# EAGLE library part AT90USB82/162 (library atmel-avr)
MICROCONTROLLER 8/16K Bytes of ISP Flash and USB Controller
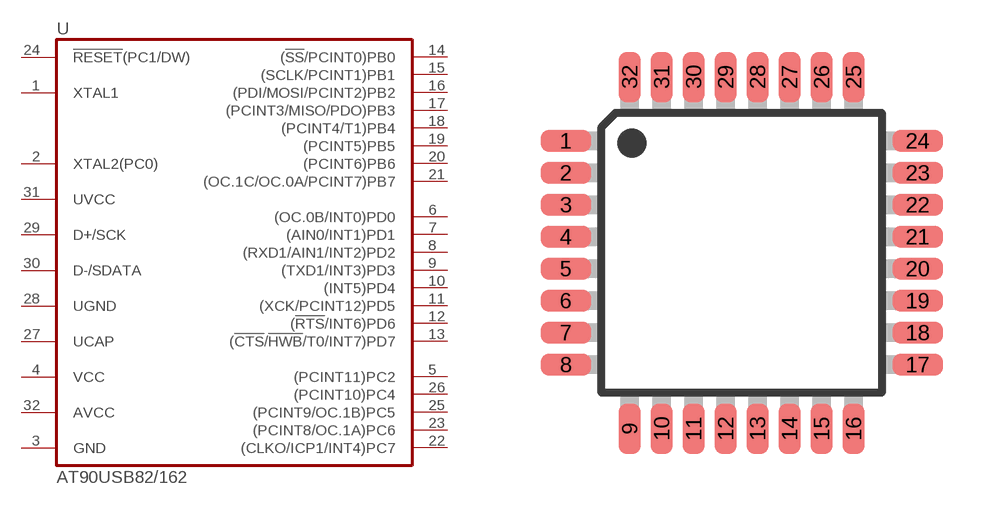
[diagram p20: symbol with the pads of TQFP32A; footprint TQFP32A]

Designator prefix U

## AT90USB82/162A  [TQFP32A]
1  XTAL1
2  XTAL2(PC0)
3  GND
4  VCC
5  (PCINT11)PC2
6  (OC.0B/INT0)PD0
7  (AIN0/INT1)PD1
8  (RXD1/AIN1/INT2)PD2
9  (TXD1/INT3)PD3
10  (INT5)PD4
11  (XCK/PCINT12)PD5
12  (!RTS!/INT6)PD6
13  (!CTS!/!HWB!/T0/INT7)PD7
14  (!SS!/PCINT0)PB0
15  (SCLK/PCINT1)PB1
16  (PDI/MOSI/PCINT2)PB2
17  (PCINT3/MISO/PDO)PB3
18  (PCINT4/T1)PB4
19  (PCINT5)PB5
20  (PCINT6)PB6
21  (OC.1C/OC.0A/PCINT7)PB7
22  (CLKO/ICP1/INT4)PC7
23  (PCINT8/OC.1A)PC6
24  !RESET!(PC1/DW)
25  (PCINT9/OC.1B)PC5
26  (PCINT10)PC4
27  UCAP
28  UGND
29  D+/SCK
30  D-/SDATA
31  UVCC
32  AVCC

## Footprint TQFP32A (pad centres in mm)
Thin Plasic Quad Flat Package 0.8 mm pitch
smd 1.27 x 0.559: 1 -4.4,2.8; 2 -4.4,2; 3 -4.4,1.2; 4 -4.4,0.4; 5 -4.4,-0.4; 6 -4.4,-1.2; 7 -4.4,-2; 8 -4.4,-2.8; 17 4.4,-2.8; 18 4.4,-2; 19 4.4,-1.2; 20 4.4,-0.4; 21 4.4,0.4; 22 4.4,1.2; 23 4.4,2; 24 4.4,2.8
smd 0.559 x 1.27: 9 -2.8,-4.4; 10 -2,-4.4; 11 -1.2,-4.4; 12 -0.4,-4.4; 13 0.4,-4.4; 14 1.2,-4.4; 15 2,-4.4; 16 2.8,-4.4; 25 2.8,4.4; 26 2,4.4; 27 1.2,4.4; 28 0.4,4.4; 29 -0.4,4.4; 30 -1.2,4.4; 31 -2,4.4; 32 -2.8,4.4